# EAGLE library part LTC6813 (library HyTechDevices - Copy)
LTC6813 18-Cell Battery Monitor Datasheet <https://www.analog.com/media/en/technical-documentation/data-sheets/LTC6813-1.pdf>
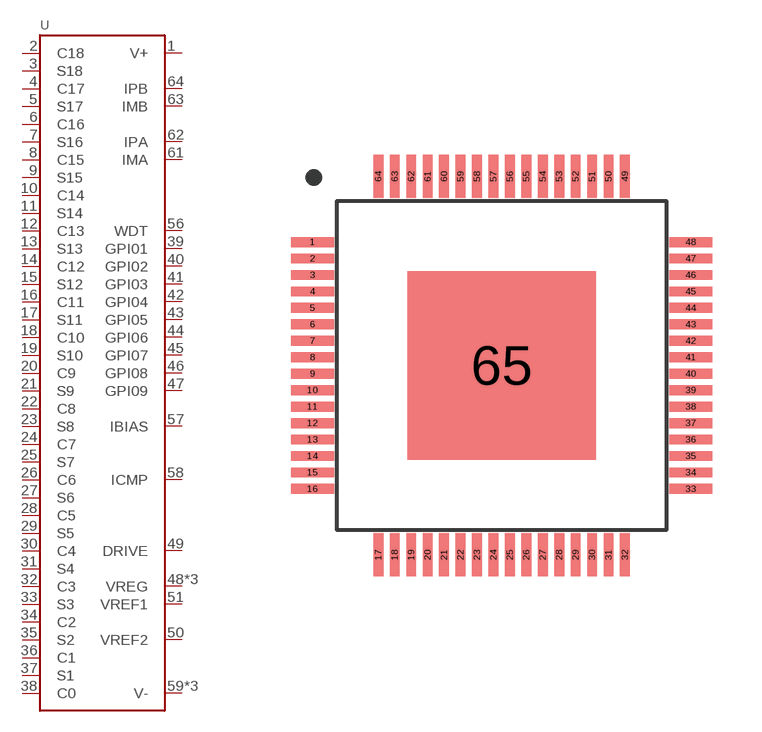
[diagram p4: symbol with the pads of LQFP-64; footprint LQFP-64]

Designator prefix U

## LTC6813 (DKPN: LTC6813ILWE-1#3ZZPBF-ND; MANUFACTURER: Analog Devices Inc.; MPN: LTC6813ILWE-1#3ZZPBF)  [LQFP-64]
1  V+  pwr
2  C18  in
3  S18
4  C17  in
5  S17
6  C16  in
7  S16
8  C15  in
9  S15
10  C14  in
11  S14
12  C13  in
13  S13
14  C12  in
15  S12
16  C11  in
17  S11
18  C10  in
19  S10
20  C9  in
21  S9
22  C8  in
23  S8
24  C7  in
25  S7
26  C6  in
27  S6
28  C5  in
29  S5
30  C4  in
31  S4
32  C3  in
33  S3
34  C2  in
35  S2
36  C1  in
37  S1
38  C0  in
39  GPI01
40  GPI02
41  GPI03
42  GPI04
43  GPI05
44  GPI06
45  GPI07
46  GPI08
47  GPI09
48  VREG  in
49  DRIVE
50  VREF2
51  VREF1
52  VREG  in
55  VREG  in
56  WDT  out
57  IBIAS
58  ICMP
59  V-  pwr
60  V-  pwr
61  IMA
62  IPA
63  IMB
64  IPB
65  V-  pwr

## Footprint LQFP-64 (pad centres in mm)
LQFP-64 Datasheet <https://www.analog.com/media/en/technical-documentation/data-sheets/ltc6813-1.pdf> Note: Based on Page 88.
smd 1.3 x 0.3: 1 -5.75,3.75; 2 -5.75,3.25; 3 -5.75,2.75; 4 -5.75,2.25; 5 -5.75,1.75; 6 -5.75,1.25; 7 -5.75,0.75; 8 -5.75,0.25; 9 -5.75,-0.25; 10 -5.75,-0.75; 11 -5.75,-1.25; 12 -5.75,-1.75; 13 -5.75,-2.25; 14 -5.75,-2.75; 15 -5.75,-3.25; 16 -5.75,-3.75; 33 5.75,-3.75; 34 5.75,-3.25; 35 5.75,-2.75; 36 5.75,-2.25; 37 5.75,-1.75; 38 5.75,-1.25; 39 5.75,-0.75; 40 5.75,-0.25; 41 5.75,0.25; 42 5.75,0.75; 43 5.75,1.25; 44 5.75,1.75; 45 5.75,2.25; 46 5.75,2.75; 47 5.75,3.25; 48 5.75,3.75
smd 0.3 x 1.3: 17 -3.75,-5.75; 18 -3.25,-5.75; 19 -2.75,-5.75; 20 -2.25,-5.75; 21 -1.75,-5.75; 22 -1.25,-5.75; 23 -0.75,-5.75; 24 -0.25,-5.75; 25 0.25,-5.75; 26 0.75,-5.75; 27 1.25,-5.75; 28 1.75,-5.75; 29 2.25,-5.75; 30 2.75,-5.75; 31 3.25,-5.75; 32 3.75,-5.75; 49 3.75,5.75; 50 3.25,5.75; 51 2.75,5.75; 52 2.25,5.75; 53 1.75,5.75; 54 1.25,5.75; 55 0.75,5.75; 56 0.25,5.75; 57 -0.25,5.75; 58 -0.75,5.75; 59 -1.25,5.75; 60 -1.75,5.75; 61 -2.25,5.75; 62 -2.75,5.75; 63 -3.25,5.75; 64 -3.75,5.75
smd 5.74 x 5.74: 65 0,0